# Altium integrated library Maxim Digital Potentiometers.IntLib: 1045 symbols (part 40 of 42)
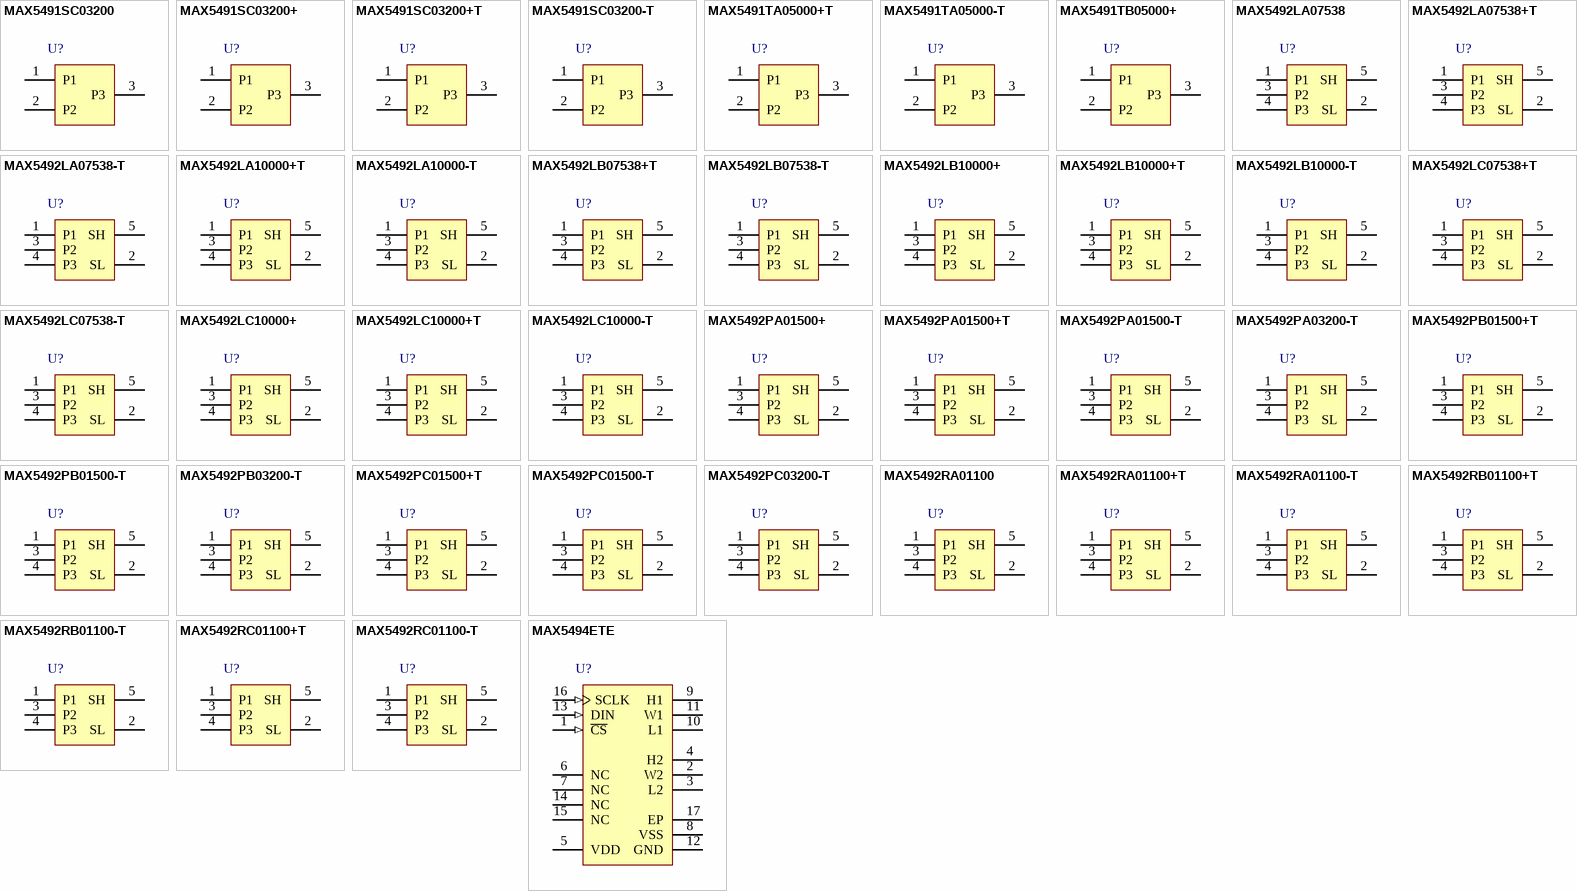
[diagram p68: symbols MAX5491SC03200 to MAX5494ETE]

## MAX5492PB01500-T
designator U?
10k 2 kV ESD Precision-Matched Resistor-Divider, -55 to 125 degC, 5-pin SOT (U5-1), Tape and Reel; PartNumber: MAX5492PB01500-T; DatasheetVersion: Rev. 0; PackageVersion: Rev. G, 04/2011; PackageReference: U5-1; PackageDescription: 5-Pin Small-Outline Transistor Package (U5-1), Body 2.9 x 1.625 mm, Pitch 0.95 mm; Supplier 1: Mouser; Supplier Part Number 1: N/A; Applications: Precision Voltage Divider; Mounting Technology: Surface Mount; Code_JEDEC: MO178; ComponentLink1Description: Manufacturer URL; ComponentLink1URL: http://www.maximintegrated.com/; ComponentLink2Description: Datasheet; ComponentLink2URL: http://datasheets.maximintegrated.com/en/ds/MAX5492.pdf; ComponentLink3Description: Package Specification; ComponentLink3URL: http://pdfserv.maximintegrated.com/package_dwgs/21-0057.PDF
footprint MAXM-U5-1_N (SOT23, 5-Leads, Body 2.9x1.625mm, Pitch 0.95mm, IPC Medium Density)
footprint MAXM-U5-1_L (SOT23, 5-Leads, Body 2.9x1.625mm, Pitch 0.95mm, IPC High Density)
footprint MAXM-U5-1_M (SOT23, 5-Leads, Body 2.9x1.625mm, Pitch 0.95mm, IPC Low Density)
pins: 1 P1 "R1 Connection Terminal", 2 SL "Sense Connection for Low Side of Resistor String. Leave floating or connect in a Kelvin connection configuration.", 3 P2 "R2 Connection Terminal", 4 P3 "Set-Point Connection Terminal", 5 SH "Sense Connection for High Side of Resistor String. Leave floating or connect in a Kelvin connection configuration."

## MAX5492PB03200-T
designator U?
10k 2 kv ESD Precision-Matched Resistor-Divider, -55 to 125 degC, 5-pin SOT (U5-1), Tape and Reel; PartNumber: MAX5492PB03200-T; DatasheetVersion: Rev. 0; PackageVersion: Rev. G, 04/2011; PackageReference: U5-1; PackageDescription: 5-Pin Small-Outline Transistor Package (U5-1), Body 2.9 x 1.625 mm, Pitch 0.95 mm; Supplier 1: Mouser; Supplier Part Number 1: N/A; Applications: Precision Voltage Divider; Mounting Technology: Surface Mount; Code_JEDEC: MO178; ComponentLink1Description: Manufacturer URL; ComponentLink1URL: http://www.maximintegrated.com/; ComponentLink2Description: Datasheet; ComponentLink2URL: http://datasheets.maximintegrated.com/en/ds/MAX5492.pdf; ComponentLink3Description: Package Specification; ComponentLink3URL: http://pdfserv.maximintegrated.com/package_dwgs/21-0057.PDF
footprint MAXM-U5-1_N (SOT23, 5-Leads, Body 2.9x1.625mm, Pitch 0.95mm, IPC Medium Density)
footprint MAXM-U5-1_L (SOT23, 5-Leads, Body 2.9x1.625mm, Pitch 0.95mm, IPC High Density)
footprint MAXM-U5-1_M (SOT23, 5-Leads, Body 2.9x1.625mm, Pitch 0.95mm, IPC Low Density)
pins: 1 P1 "R1 Connection Terminal", 2 SL "Sense Connection for Low Side of Resistor String. Leave floating or connect in a Kelvin connection configuration.", 3 P2 "R2 Connection Terminal", 4 P3 "Set-Point Connection Terminal", 5 SH "Sense Connection for High Side of Resistor String. Leave floating or connect in a Kelvin connection configuration."

## MAX5492PC01500+T
designator U?
10k 2 kV ESD Precision-Matched Resistor-Divider, -55 to 125 degC, 5-pin SOT (U5+1), Pb-Free, Tape and Reel; PartNumber: MAX5492PC01500+T; DatasheetVersion: Rev. 0; PackageVersion: Rev. G, 04/2011; PackageReference: U5+1; PackageDescription: 5-Pin Small-Outline Transistor Package (U5+1), Body 2.90 x 1.625 mm, Pitch 0.95 mm; Supplier 1: Digi-Key; Supplier Part Number 1: MAX5492PC01500+T-ND; Supplier 2: Mouser; Supplier Part Number 2: 700-MAX5492PC01500T; Applications: Precision Voltage Divider; Mounting Technology: Surface Mount; Code_JEDEC: MO178; ComponentLink1Description: Manufacturer URL; ComponentLink1URL: http://www.maximintegrated.com/; ComponentLink2Description: Datasheet; ComponentLink2URL: http://datasheets.maximintegrated.com/en/ds/MAX5492.pdf; ComponentLink3Description: Package Specification; ComponentLink3URL: http://pdfserv.maximintegrated.com/package_dwgs/21-0057.PDF
footprint MAXM-U5+1_N (SOT23, 5-Leads, Body 2.9x1.625mm, Pitch 0.95mm, IPC Medium Density)
footprint MAXM-U5+1_L (SOT23, 5-Leads, Body 2.9x1.625mm, Pitch 0.95mm, IPC High Density)
footprint MAXM-U5+1_M (SOT23, 5-Leads, Body 2.9x1.625mm, Pitch 0.95mm, IPC Low Density)
pins: 1 P1 "R1 Connection Terminal", 2 SL "Sense Connection for Low Side of Resistor String. Leave floating or connect in a Kelvin connection configuration.", 3 P2 "R2 Connection Terminal", 4 P3 "Set-Point Connection Terminal", 5 SH "Sense Connection for High Side of Resistor String. Leave floating or connect in a Kelvin connection configuration."

## MAX5492PC01500-T
designator U?
10k 2 kV ESD Precision-Matched Resistor-Divider, -55 to 125 degC, 5-pin SOT (U5-1), Tape and Reel; PartNumber: MAX5492PC01500-T; DatasheetVersion: Rev. 0; PackageVersion: Rev. G, 04/2011; PackageReference: U5-1; PackageDescription: 5-Pin Small-Outline Transistor Package (U5-1), Body 2.9 x 1.625 mm, Pitch 0.95 mm; Supplier 1: Mouser; Supplier Part Number 1: N/A; Applications: Precision Voltage Divider; Mounting Technology: Surface Mount; Code_JEDEC: MO178; ComponentLink1Description: Manufacturer URL; ComponentLink1URL: http://www.maximintegrated.com/; ComponentLink2Description: Datasheet; ComponentLink2URL: http://datasheets.maximintegrated.com/en/ds/MAX5492.pdf; ComponentLink3Description: Package Specification; ComponentLink3URL: http://pdfserv.maximintegrated.com/package_dwgs/21-0057.PDF
footprint MAXM-U5-1_N (SOT23, 5-Leads, Body 2.9x1.625mm, Pitch 0.95mm, IPC Medium Density)
footprint MAXM-U5-1_L (SOT23, 5-Leads, Body 2.9x1.625mm, Pitch 0.95mm, IPC High Density)
footprint MAXM-U5-1_M (SOT23, 5-Leads, Body 2.9x1.625mm, Pitch 0.95mm, IPC Low Density)
pins: 1 P1 "R1 Connection Terminal", 2 SL "Sense Connection for Low Side of Resistor String. Leave floating or connect in a Kelvin connection configuration.", 3 P2 "R2 Connection Terminal", 4 P3 "Set-Point Connection Terminal", 5 SH "Sense Connection for High Side of Resistor String. Leave floating or connect in a Kelvin connection configuration."

## MAX5492PC03200-T
designator U?
10k 2 kV ESD Precision-Matched Resistor-Divider, -55 to 125 degC, 5-pin SOT (U5-1), Tape and Reel; PartNumber: MAX5492PC03200-T; DatasheetVersion: Rev. 0; PackageVersion: Rev. G, 04/2011; PackageReference: U5-1; PackageDescription: 5-Pin Small-Outline Transistor Package (U5-1), Body 2.9 x 1.625 mm, Pitch 0.95 mm; Supplier 1: Mouser; Supplier Part Number 1: N/A; Applications: Precision Voltage Divider; Mounting Technology: Surface Mount; Code_JEDEC: MO178; ComponentLink1Description: Manufacturer URL; ComponentLink1URL: http://www.maximintegrated.com/; ComponentLink2Description: Datasheet; ComponentLink2URL: http://datasheets.maximintegrated.com/en/ds/MAX5492.pdf; ComponentLink3Description: Package Specification; ComponentLink3URL: http://pdfserv.maximintegrated.com/package_dwgs/21-0057.PDF
footprint MAXM-U5-1_N (SOT23, 5-Leads, Body 2.9x1.625mm, Pitch 0.95mm, IPC Medium Density)
footprint MAXM-U5-1_L (SOT23, 5-Leads, Body 2.9x1.625mm, Pitch 0.95mm, IPC High Density)
footprint MAXM-U5-1_M (SOT23, 5-Leads, Body 2.9x1.625mm, Pitch 0.95mm, IPC Low Density)
pins: 1 P1 "R1 Connection Terminal", 2 SL "Sense Connection for Low Side of Resistor String. Leave floating or connect in a Kelvin connection configuration.", 3 P2 "R2 Connection Terminal", 4 P3 "Set-Point Connection Terminal", 5 SH "Sense Connection for High Side of Resistor String. Leave floating or connect in a Kelvin connection configuration."

## MAX5492RA01100
designator U?
10k 2 kV ESD Precision-Matched Resistor-Divider, -55 to 125 degC, 5-pin SOT (U5-1); PartNumber: MAX5492RA01100; DatasheetVersion: Rev. 0; PackageVersion: Rev. G, 04/2011; PackageReference: U5-1; PackageDescription: 5-Pin Small-Outline Transistor Package (U5-1), Body 2.9 x 1.625 mm, Pitch 0.95 mm; Supplier 1: Mouser; Supplier Part Number 1: N/A; Applications: Precision Voltage Divider; Mounting Technology: Surface Mount; Code_JEDEC: MO178; ComponentLink1Description: Manufacturer URL; ComponentLink1URL: http://www.maximintegrated.com/; ComponentLink2Description: Datasheet; ComponentLink2URL: http://datasheets.maximintegrated.com/en/ds/MAX5492.pdf; ComponentLink3Description: Package Specification; ComponentLink3URL: http://pdfserv.maximintegrated.com/package_dwgs/21-0057.PDF
footprint MAXM-U5-1_N (SOT23, 5-Leads, Body 2.9x1.625mm, Pitch 0.95mm, IPC Medium Density)
footprint MAXM-U5-1_L (SOT23, 5-Leads, Body 2.9x1.625mm, Pitch 0.95mm, IPC High Density)
footprint MAXM-U5-1_M (SOT23, 5-Leads, Body 2.9x1.625mm, Pitch 0.95mm, IPC Low Density)
pins: 1 P1 "R1 Connection Terminal", 2 SL "Sense Connection for Low Side of Resistor String. Leave floating or connect in a Kelvin connection configuration.", 3 P2 "R2 Connection Terminal", 4 P3 "Set-Point Connection Terminal", 5 SH "Sense Connection for High Side of Resistor String. Leave floating or connect in a Kelvin connection configuration."

## MAX5492RA01100+T
designator U?
10k 2 kV ESD Precision-Matched Resistor-Divider, -55 to 125 degC, 5-pin SOT (U5+1), Pb-Free, Tape and Reel; PartNumber: MAX5492RA01100+T; DatasheetVersion: Rev. 0; PackageVersion: Rev. G, 04/2011; PackageReference: U5+1; PackageDescription: 5-Pin Small-Outline Transistor Package (U5+1), Body 2.90 x 1.625 mm, Pitch 0.95 mm; Supplier 1: Digi-Key; Supplier Part Number 1: MAX5492RA01100+T-ND; Supplier 2: Mouser; Supplier Part Number 2: 700-MAX5492RA01100T; Applications: Precision Voltage Divider; Mounting Technology: Surface Mount; Code_JEDEC: MO178; ComponentLink1Description: Manufacturer URL; ComponentLink1URL: http://www.maximintegrated.com/; ComponentLink2Description: Datasheet; ComponentLink2URL: http://datasheets.maximintegrated.com/en/ds/MAX5492.pdf; ComponentLink3Description: Package Specification; ComponentLink3URL: http://pdfserv.maximintegrated.com/package_dwgs/21-0057.PDF
footprint MAXM-U5+1_N (SOT23, 5-Leads, Body 2.9x1.625mm, Pitch 0.95mm, IPC Medium Density)
footprint MAXM-U5+1_L (SOT23, 5-Leads, Body 2.9x1.625mm, Pitch 0.95mm, IPC High Density)
footprint MAXM-U5+1_M (SOT23, 5-Leads, Body 2.9x1.625mm, Pitch 0.95mm, IPC Low Density)
pins: 1 P1 "R1 Connection Terminal", 2 SL "Sense Connection for Low Side of Resistor String. Leave floating or connect in a Kelvin connection configuration.", 3 P2 "R2 Connection Terminal", 4 P3 "Set-Point Connection Terminal", 5 SH "Sense Connection for High Side of Resistor String. Leave floating or connect in a Kelvin connection configuration."

## MAX5492RA01100-T
designator U?
10k 2 kV ESD Precision-Matched Resistor-Divider, -55 to 125 degC, 5-pin SOT (U5-1), Tape and Reel; PartNumber: MAX5492RA01100-T; DatasheetVersion: Rev. 0; PackageVersion: Rev. G, 04/2011; PackageReference: U5-1; PackageDescription: 5-Pin Small-Outline Transistor Package (U5-1), Body 2.9 x 1.625 mm, Pitch 0.95 mm; Supplier 1: Mouser; Supplier Part Number 1: N/A; Applications: Precision Voltage Divider; Mounting Technology: Surface Mount; Code_JEDEC: MO178; ComponentLink1Description: Manufacturer URL; ComponentLink1URL: http://www.maximintegrated.com/; ComponentLink2Description: Datasheet; ComponentLink2URL: http://datasheets.maximintegrated.com/en/ds/MAX5492.pdf; ComponentLink3Description: Package Specification; ComponentLink3URL: http://pdfserv.maximintegrated.com/package_dwgs/21-0057.PDF
footprint MAXM-U5-1_N (SOT23, 5-Leads, Body 2.9x1.625mm, Pitch 0.95mm, IPC Medium Density)
footprint MAXM-U5-1_L (SOT23, 5-Leads, Body 2.9x1.625mm, Pitch 0.95mm, IPC High Density)
footprint MAXM-U5-1_M (SOT23, 5-Leads, Body 2.9x1.625mm, Pitch 0.95mm, IPC Low Density)
pins: 1 P1 "R1 Connection Terminal", 2 SL "Sense Connection for Low Side of Resistor String. Leave floating or connect in a Kelvin connection configuration.", 3 P2 "R2 Connection Terminal", 4 P3 "Set-Point Connection Terminal", 5 SH "Sense Connection for High Side of Resistor String. Leave floating or connect in a Kelvin connection configuration."

## MAX5492RB01100+T
designator U?
10k 2 kV ESD Precision-Matched Resistor-Divider, -55 to 125 degC, 5-pin SOT (U5+1), Pb-Free, Tape and Reel; PartNumber: MAX5492RB01100+T; DatasheetVersion: Rev. 0; PackageVersion: Rev. G, 04/2011; PackageReference: U5+1; PackageDescription: 5-Pin Small-Outline Transistor Package (U5+1), Body 2.90 x 1.625 mm, Pitch 0.95 mm; Supplier 1: Digi-Key; Supplier Part Number 1: MAX5492RB01100+T-ND; Supplier 2: Mouser; Supplier Part Number 2: 700-MAX5492RB01100T; Applications: Precision Voltage Divider; Mounting Technology: Surface Mount; Code_JEDEC: MO178; ComponentLink1Description: Manufacturer URL; ComponentLink1URL: http://www.maximintegrated.com/; ComponentLink2Description: Datasheet; ComponentLink2URL: http://datasheets.maximintegrated.com/en/ds/MAX5492.pdf; ComponentLink3Description: Package Specification; ComponentLink3URL: http://pdfserv.maximintegrated.com/package_dwgs/21-0057.PDF
footprint MAXM-U5+1_N (SOT23, 5-Leads, Body 2.9x1.625mm, Pitch 0.95mm, IPC Medium Density)
footprint MAXM-U5+1_L (SOT23, 5-Leads, Body 2.9x1.625mm, Pitch 0.95mm, IPC High Density)
footprint MAXM-U5+1_M (SOT23, 5-Leads, Body 2.9x1.625mm, Pitch 0.95mm, IPC Low Density)
pins: 1 P1 "R1 Connection Terminal", 2 SL "Sense Connection for Low Side of Resistor String. Leave floating or connect in a Kelvin connection configuration.", 3 P2 "R2 Connection Terminal", 4 P3 "Set-Point Connection Terminal", 5 SH "Sense Connection for High Side of Resistor String. Leave floating or connect in a Kelvin connection configuration."

## MAX5492RB01100-T
designator U?
10k 2 kv ESD Precision-Matched Resistor-Divider, -55 to 125 degC, 5-pin SOT (U5-1), Tape and Reel; PartNumber: MAX5492RB01100-T; DatasheetVersion: Rev. 0; PackageVersion: Rev. G, 04/2011; PackageReference: U5-1; PackageDescription: 5-Pin Small-Outline Transistor Package (U5-1), Body 2.9 x 1.625 mm, Pitch 0.95 mm; Supplier 1: Mouser; Supplier Part Number 1: N/A; Applications: Precision Voltage Divider; Mounting Technology: Surface Mount; Code_JEDEC: MO178; ComponentLink1Description: Manufacturer URL; ComponentLink1URL: http://www.maximintegrated.com/; ComponentLink2Description: Datasheet; ComponentLink2URL: http://datasheets.maximintegrated.com/en/ds/MAX5492.pdf; ComponentLink3Description: Package Specification; ComponentLink3URL: http://pdfserv.maximintegrated.com/package_dwgs/21-0057.PDF
footprint MAXM-U5-1_N (SOT23, 5-Leads, Body 2.9x1.625mm, Pitch 0.95mm, IPC Medium Density)
footprint MAXM-U5-1_L (SOT23, 5-Leads, Body 2.9x1.625mm, Pitch 0.95mm, IPC High Density)
footprint MAXM-U5-1_M (SOT23, 5-Leads, Body 2.9x1.625mm, Pitch 0.95mm, IPC Low Density)
pins: 1 P1 "R1 Connection Terminal", 2 SL "Sense Connection for Low Side of Resistor String. Leave floating or connect in a Kelvin connection configuration.", 3 P2 "R2 Connection Terminal", 4 P3 "Set-Point Connection Terminal", 5 SH "Sense Connection for High Side of Resistor String. Leave floating or connect in a Kelvin connection configuration."

## MAX5492RC01100+T
designator U?
10k 2 kV ESD Precision-Matched Resistor-Divider, -55 to 125 degC, 5-pin SOT (U5+1), Pb-Free, Tape and Reel; PartNumber: MAX5492RC01100+T; DatasheetVersion: Rev. 0; PackageVersion: Rev. G, 04/2011; PackageReference: U5+1; PackageDescription: 5-Pin Small-Outline Transistor Package (U5+1), Body 2.90 x 1.625 mm, Pitch 0.95 mm; Supplier 1: Digi-Key; Supplier Part Number 1: MAX5492RC01100+T-ND; Supplier 2: Mouser; Supplier Part Number 2: 700-MAX5492RC01100T; Applications: Precision Voltage Divider; Mounting Technology: Surface Mount; Code_JEDEC: MO178; ComponentLink1Description: Manufacturer URL; ComponentLink1URL: http://www.maximintegrated.com/; ComponentLink2Description: Datasheet; ComponentLink2URL: http://datasheets.maximintegrated.com/en/ds/MAX5492.pdf; ComponentLink3Description: Package Specification; ComponentLink3URL: http://pdfserv.maximintegrated.com/package_dwgs/21-0057.PDF
footprint MAXM-U5+1_N (SOT23, 5-Leads, Body 2.9x1.625mm, Pitch 0.95mm, IPC Medium Density)
footprint MAXM-U5+1_L (SOT23, 5-Leads, Body 2.9x1.625mm, Pitch 0.95mm, IPC High Density)
footprint MAXM-U5+1_M (SOT23, 5-Leads, Body 2.9x1.625mm, Pitch 0.95mm, IPC Low Density)
pins: 1 P1 "R1 Connection Terminal", 2 SL "Sense Connection for Low Side of Resistor String. Leave floating or connect in a Kelvin connection configuration.", 3 P2 "R2 Connection Terminal", 4 P3 "Set-Point Connection Terminal", 5 SH "Sense Connection for High Side of Resistor String. Leave floating or connect in a Kelvin connection configuration."

## MAX5492RC01100-T
designator U?
10k 2 kV ESD Precision-Matched Resistor-Divider, -55 to 125 degC, 5-pin SOT (U5-1), Tape and Reel; PartNumber: MAX5492RC01100-T; DatasheetVersion: Rev. 0; PackageVersion: Rev. G, 04/2011; PackageReference: U5-1; PackageDescription: 5-Pin Small-Outline Transistor Package (U5-1), Body 2.9 x 1.625 mm, Pitch 0.95 mm; Supplier 1: Mouser; Supplier Part Number 1: N/A; Applications: Precision Voltage Divider; Mounting Technology: Surface Mount; Code_JEDEC: MO178; ComponentLink1Description: Manufacturer URL; ComponentLink1URL: http://www.maximintegrated.com/; ComponentLink2Description: Datasheet; ComponentLink2URL: http://datasheets.maximintegrated.com/en/ds/MAX5492.pdf; ComponentLink3Description: Package Specification; ComponentLink3URL: http://pdfserv.maximintegrated.com/package_dwgs/21-0057.PDF
footprint MAXM-U5-1_N (SOT23, 5-Leads, Body 2.9x1.625mm, Pitch 0.95mm, IPC Medium Density)
footprint MAXM-U5-1_L (SOT23, 5-Leads, Body 2.9x1.625mm, Pitch 0.95mm, IPC High Density)
footprint MAXM-U5-1_M (SOT23, 5-Leads, Body 2.9x1.625mm, Pitch 0.95mm, IPC Low Density)
pins: 1 P1 "R1 Connection Terminal", 2 SL "Sense Connection for Low Side of Resistor String. Leave floating or connect in a Kelvin connection configuration.", 3 P2 "R2 Connection Terminal", 4 P3 "Set-Point Connection Terminal", 5 SH "Sense Connection for High Side of Resistor String. Leave floating or connect in a Kelvin connection configuration."

## MAX5494ETE
designator U?
Dual 10k Digital Potentiometer (Voltage Divider) with 3-Wire Serial SPI Control Interface, Non-Volatile, Linear Taper, 1024 Steps, -40 to 85 degC, TQFN (T1655-3); PartNumber: MAX5494ETE; DatasheetVersion: Rev. 2; PackageVersion: Rev. Q, 09/2011; PackageReference: T1655-3; PackageDescription: 16-Pin Thin Quad Flatpack, No Leads, Body 5 x 5 mm, Pitch 0.8 mm; Supplier 1: Mouser; Supplier Part Number 1: N/A; Applications: Fiber Communications, Power Supply Cal.; Control Interface: 3-Wire Serial SPI; Features: EEPROM Wiper Memory; Mounting Technology: Surface Mount; Code_JEDEC: MO220; ComponentLink1Description: Manufacturer URL; ComponentLink1URL: http://www.maximintegrated.com/; ComponentLink2Description: Datasheet; ComponentLink2URL: http://datasheets.maximintegrated.com/en/ds/MAX5494-MAX5499.pdf; ComponentLink3Description: Package Specification; ComponentLink3URL: http://pdfserv.maximintegrated.com/package_dwgs/21-0140.PDF
footprint MAXM-T1655-3_N (QFN, 16-Leads, Body 5x5mm, Pitch 0.8mm, Thermal Pad 3.1x3.1mm, IPC Medium Density)
footprint MAXM-T1655-3_L (QFN, 16-Leads, Body 5x5mm, Pitch 0.8mm, Thermal Pad 3.1x3.1mm, IPC High Density)
footprint MAXM-T1655-3_M (QFN, 16-Leads, Body 5x5mm, Pitch 0.8mm, Thermal Pad 3.1x3.1mm, IPC Low Density)
pins: 1 ~{CS} (in) "Active-Low Chip-Select Input. Drive C\S\ low to enable the serial interface. Drive C\S\ high to disable the serial interface and put the device in standby mode.", 2 W2 "Wiper Terminal 2", 3 L2 "Low Terminal 2", 4 H2 "High Terminal 2", 5 VDD (power) "Positive Power-Supply Input. 2.7V =< VDD =< 5.25V. Bypass with a 0.1uF capacitor from VDD to GND as close to the device as possible", 6 NC "No Connection. Not internally connected.", 7 NC "No Connection. Not internally connected.", 8 VSS (power) "Negative Power-Supply Input. Single-supply operation: VSS = GND = 0. Dual-supply operation: -2.5V =< VSS =< -0.2V (VSS can vary as long as (VDD - VSS) =< 5.25V). Bypass with a 0.1uF capacitor from VSS to GND as close to the (See Datasheet)", 9 H1 "High Terminal 1", 10 L1 "Low Terminal 1", 11 W1 "Wiper Terminal 1", 12 GND (power) "Ground", 13 DIN (in) "Serial-Data Input. The data at DIN synchronously loads into the serial shift register on each SCLK rising edge.", 14 NC "No Connection. Not internally connected.", 15 NC "No Connection. Not internally connected.", 16 SCLK (in) "Serial-Clock Input . SCLK clocks in the data when C\S\ is low.", 17 EP (power) "Exposed Pad. Externally connect EP to VSS to provide a low thermal resistance path from the IC junction to the PC board or leave unconnected."

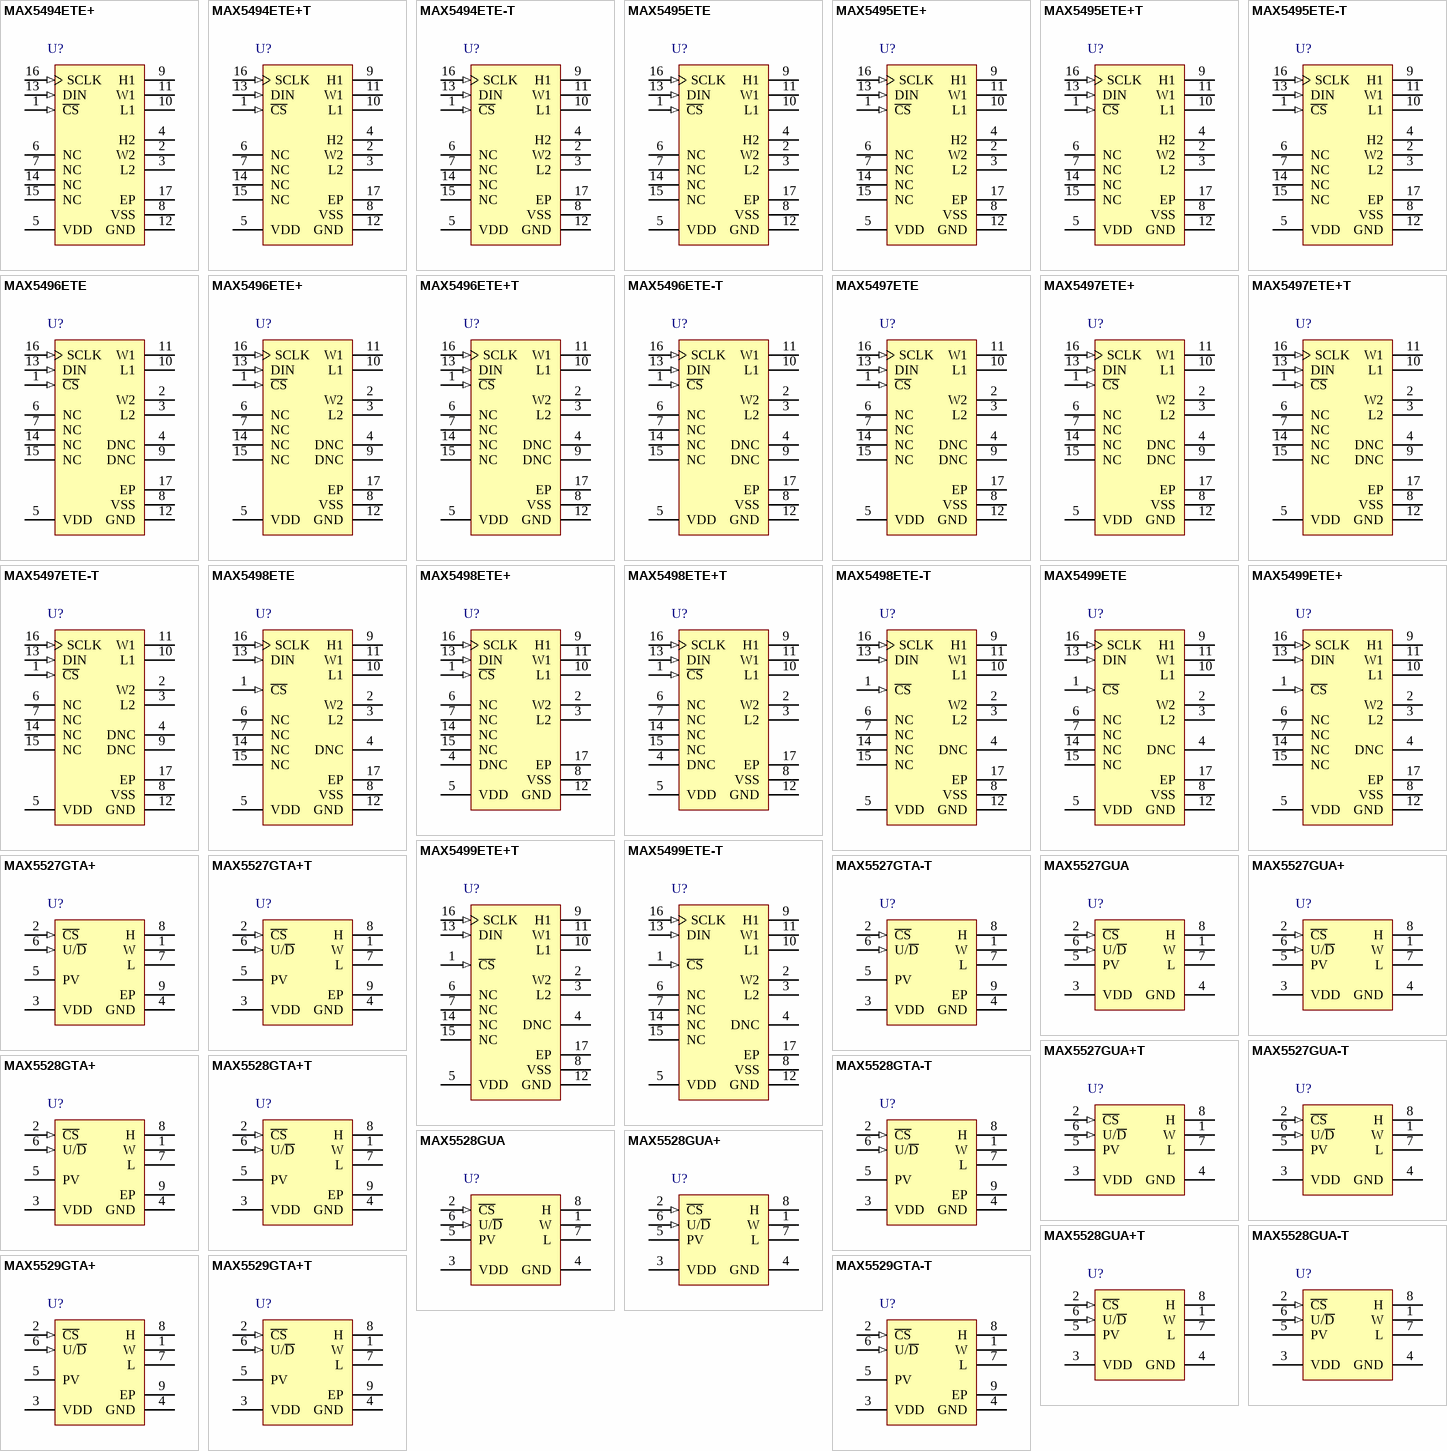
[diagram p28: symbols MAX5494ETE+ to MAX5529GTA-T]

## MAX5494ETE+
designator U?
Dual 10k Digital Potentiometer (Voltage Divider) with 3-Wire Serial SPI Control Interface, Non-Volatile, Linear Taper, 1024 Steps, -40 to 85 degC, TQFN (T1655+3), Pb-Free; PartNumber: MAX5494ETE+; DatasheetVersion: Rev. 2; PackageVersion: Rev. Q, 09/2011; PackageReference: T1655+3; PackageDescription: 16-Pin Thin Quad Flatpack, No Leads, Body 5 x 5 mm, Pitch 0.8 mm; Supplier 1: Digi-Key; Supplier Part Number 1: MAX5494ETE+-ND; Supplier 2: Newark; Supplier Part Number 2: 61K0535; Supplier 3: Mouser; Supplier Part Number 3: 700-MAX5494ETE; Applications: Fiber Communications, Power Supply Cal.; Control Interface: 3-Wire Serial SPI; Features: EEPROM Wiper Memory; Mounting Technology: Surface Mount; Code_JEDEC: MO220; ComponentLink1Description: Manufacturer URL; ComponentLink1URL: http://www.maximintegrated.com/; ComponentLink2Description: Datasheet; ComponentLink2URL: http://datasheets.maximintegrated.com/en/ds/MAX5494-MAX5499.pdf; ComponentLink3Description: Package Specification; ComponentLink3URL: http://pdfserv.maximintegrated.com/package_dwgs/21-0140.PDF
footprint MAXM-T1655+3_N (QFN, 16-Leads, Body 5x5mm, Pitch 0.8mm, Thermal Pad 3.1x3.1mm, IPC Medium Density)
footprint MAXM-T1655+3_L (QFN, 16-Leads, Body 5x5mm, Pitch 0.8mm, Thermal Pad 3.1x3.1mm, IPC High Density)
footprint MAXM-T1655+3_M (QFN, 16-Leads, Body 5x5mm, Pitch 0.8mm, Thermal Pad 3.1x3.1mm, IPC Low Density)
pins: 1 ~{CS} (in) "Active-Low Chip-Select Input. Drive C\S\ low to enable the serial interface. Drive C\S\ high to disable the serial interface and put the device in standby mode.", 2 W2 "Wiper Terminal 2", 3 L2 "Low Terminal 2", 4 H2 "High Terminal 2", 5 VDD (power) "Positive Power-Supply Input. 2.7V =< VDD =< 5.25V. Bypass with a 0.1uF capacitor from VDD to GND as close to the device as possible", 6 NC "No Connection. Not internally connected.", 7 NC "No Connection. Not internally connected.", 8 VSS (power) "Negative Power-Supply Input. Single-supply operation: VSS = GND = 0. Dual-supply operation: -2.5V =< VSS =< -0.2V (VSS can vary as long as (VDD - VSS) =< 5.25V). Bypass with a 0.1uF capacitor from VSS to GND as close to the (See Datasheet)", 9 H1 "High Terminal 1", 10 L1 "Low Terminal 1", 11 W1 "Wiper Terminal 1", 12 GND (power) "Ground", 13 DIN (in) "Serial-Data Input. The data at DIN synchronously loads into the serial shift register on each SCLK rising edge.", 14 NC "No Connection. Not internally connected.", 15 NC "No Connection. Not internally connected.", 16 SCLK (in) "Serial-Clock Input . SCLK clocks in the data when C\S\ is low.", 17 EP (power) "Exposed Pad. Externally connect EP to VSS to provide a low thermal resistance path from the IC junction to the PC board or leave unconnected."

## MAX5494ETE+T
designator U?
Dual 10k Linear-Taper Digital Potentiometer (Voltage Divider) with 3-Wire Serial SPI Control Interface, Non-Volatile, Linear Taper, 1024 Steps, -40 to 85 degC, TQFN (T1655+3), Pb-Free, Tape and Reel; PartNumber: MAX5494ETE+T; DatasheetVersion: Rev. 2; PackageVersion: Rev. Q, 09/2011; PackageReference: T1655+3; PackageDescription: 16-Pin Thin Quad Flatpack, No Leads, Body 5 x 5 mm, Pitch 0.8 mm; Supplier 1: Digi-Key; Supplier Part Number 1: MAX5494ETE+T-ND; Supplier 2: Mouser; Supplier Part Number 2: 700-MAX5494ETET; Applications: Fiber Communications, Power Supply Cal.; Control Interface: 3-Wire Serial SPI; Features: EEPROM Wiper Memory; Mounting Technology: Surface Mount; Code_JEDEC: MO220; ComponentLink1Description: Manufacturer URL; ComponentLink1URL: http://www.maximintegrated.com/; ComponentLink2Description: Datasheet; ComponentLink2URL: http://datasheets.maximintegrated.com/en/ds/MAX5494-MAX5499.pdf; ComponentLink3Description: Package Specification; ComponentLink3URL: http://pdfserv.maximintegrated.com/package_dwgs/21-0140.PDF
footprint MAXM-T1655+3_N (QFN, 16-Leads, Body 5x5mm, Pitch 0.8mm, Thermal Pad 3.1x3.1mm, IPC Medium Density)
footprint MAXM-T1655+3_L (QFN, 16-Leads, Body 5x5mm, Pitch 0.8mm, Thermal Pad 3.1x3.1mm, IPC High Density)
footprint MAXM-T1655+3_M (QFN, 16-Leads, Body 5x5mm, Pitch 0.8mm, Thermal Pad 3.1x3.1mm, IPC Low Density)
pins: 1 ~{CS} (in) "Active-Low Chip-Select Input. Drive C\S\ low to enable the serial interface. Drive C\S\ high to disable the serial interface and put the device in standby mode.", 2 W2 "Wiper Terminal 2", 3 L2 "Low Terminal 2", 4 H2 "High Terminal 2", 5 VDD (power) "Positive Power-Supply Input. 2.7V =< VDD =< 5.25V. Bypass with a 0.1uF capacitor from VDD to GND as close to the device as possible", 6 NC "No Connection. Not internally connected.", 7 NC "No Connection. Not internally connected.", 8 VSS (power) "Negative Power-Supply Input. Single-supply operation: VSS = GND = 0. Dual-supply operation: -2.5V =< VSS =< -0.2V (VSS can vary as long as (VDD - VSS) =< 5.25V). Bypass with a 0.1uF capacitor from VSS to GND as close to the (See Datasheet)", 9 H1 "High Terminal 1", 10 L1 "Low Terminal 1", 11 W1 "Wiper Terminal 1", 12 GND (power) "Ground", 13 DIN (in) "Serial-Data Input. The data at DIN synchronously loads into the serial shift register on each SCLK rising edge.", 14 NC "No Connection. Not internally connected.", 15 NC "No Connection. Not internally connected.", 16 SCLK (in) "Serial-Clock Input . SCLK clocks in the data when C\S\ is low.", 17 EP (power) "Exposed Pad. Externally connect EP to VSS to provide a low thermal resistance path from the IC junction to the PC board or leave unconnected."

## MAX5494ETE-T
designator U?
Dual 10k Digital Potentiometer (Voltage Divider) with 3-Wire Serial SPI Control Interface, Non-Volatile, Linear Taper, 1024 Steps, -40 to 85 degC, 16-pin TQFN (T1655-3), Tape and Reel; PartNumber: MAX5494ETE-T; DatasheetVersion: Rev. 2; PackageVersion: Rev. Q, 09/2011; PackageReference: T1655-3; PackageDescription: 16-Pin Thin Quad Flatpack, No Leads, Body 5 x 5 mm, Pitch 0.8 mm; Supplier 1: Mouser; Supplier Part Number 1: N/A; Applications: Fiber Communications, Power Supply Cal.; Control Interface: 3-Wire Serial SPI; Features: EEPROM Wiper Memory; Mounting Technology: Surface Mount; Code_JEDEC: MO220; ComponentLink1Description: Manufacturer URL; ComponentLink1URL: http://www.maximintegrated.com/; ComponentLink2Description: Datasheet; ComponentLink2URL: http://datasheets.maximintegrated.com/en/ds/MAX5494-MAX5499.pdf; ComponentLink3Description: Package Specification; ComponentLink3URL: http://pdfserv.maximintegrated.com/package_dwgs/21-0140.PDF
footprint MAXM-T1655-3_N (QFN, 16-Leads, Body 5x5mm, Pitch 0.8mm, Thermal Pad 3.1x3.1mm, IPC Medium Density)
footprint MAXM-T1655-3_L (QFN, 16-Leads, Body 5x5mm, Pitch 0.8mm, Thermal Pad 3.1x3.1mm, IPC High Density)
footprint MAXM-T1655-3_M (QFN, 16-Leads, Body 5x5mm, Pitch 0.8mm, Thermal Pad 3.1x3.1mm, IPC Low Density)
pins: 1 ~{CS} (in) "Active-Low Chip-Select Input. Drive C\S\ low to enable the serial interface. Drive C\S\ high to disable the serial interface and put the device in standby mode.", 2 W2 "Wiper Terminal 2", 3 L2 "Low Terminal 2", 4 H2 "High Terminal 2", 5 VDD (power) "Positive Power-Supply Input. 2.7V =< VDD =< 5.25V. Bypass with a 0.1uF capacitor from VDD to GND as close to the device as possible", 6 NC "No Connection. Not internally connected.", 7 NC "No Connection. Not internally connected.", 8 VSS (power) "Negative Power-Supply Input. Single-supply operation: VSS = GND = 0. Dual-supply operation: -2.5V =< VSS =< -0.2V (VSS can vary as long as (VDD - VSS) =< 5.25V). Bypass with a 0.1uF capacitor from VSS to GND as close to the (See Datasheet)", 9 H1 "High Terminal 1", 10 L1 "Low Terminal 1", 11 W1 "Wiper Terminal 1", 12 GND (power) "Ground", 13 DIN (in) "Serial-Data Input. The data at DIN synchronously loads into the serial shift register on each SCLK rising edge.", 14 NC "No Connection. Not internally connected.", 15 NC "No Connection. Not internally connected.", 16 SCLK (in) "Serial-Clock Input . SCLK clocks in the data when C\S\ is low.", 17 EP (power) "Exposed Pad. Externally connect EP to VSS to provide a low thermal resistance path from the IC junction to the PC board or leave unconnected."

## MAX5495ETE
designator U?
Dual 50k Digital Potentiometer (Voltage Divider) with 3-Wire Serial SPI Control Interface, Non-Volatile, Linear Taper, 1024 Steps, -40 to 85 degC, 16-pin TQFN (T1655-3); PartNumber: MAX5495ETE; DatasheetVersion: Rev. 2; PackageVersion: Rev. Q, 09/2011; PackageReference: T1655-3; PackageDescription: 16-Pin Thin Quad Flatpack, No Leads, Body 5 x 5 mm, Pitch 0.8 mm; Supplier 1: Mouser; Supplier Part Number 1: N/A; Applications: Fiber Communications, Power Supply Cal.; Control Interface: 3-Wire Serial SPI; Features: EEPROM Wiper Memory; Mounting Technology: Surface Mount; Code_JEDEC: MO220; ComponentLink1Description: Manufacturer URL; ComponentLink1URL: http://www.maximintegrated.com/; ComponentLink2Description: Datasheet; ComponentLink2URL: http://datasheets.maximintegrated.com/en/ds/MAX5494-MAX5499.pdf; ComponentLink3Description: Package Specification; ComponentLink3URL: http://pdfserv.maximintegrated.com/package_dwgs/21-0140.PDF
footprint MAXM-T1655-3_N (QFN, 16-Leads, Body 5x5mm, Pitch 0.8mm, Thermal Pad 3.1x3.1mm, IPC Medium Density)
footprint MAXM-T1655-3_L (QFN, 16-Leads, Body 5x5mm, Pitch 0.8mm, Thermal Pad 3.1x3.1mm, IPC High Density)
footprint MAXM-T1655-3_M (QFN, 16-Leads, Body 5x5mm, Pitch 0.8mm, Thermal Pad 3.1x3.1mm, IPC Low Density)
pins: 1 ~{CS} (in) "Active-Low Chip-Select Input. Drive C\S\ low to enable the serial interface. Drive C\S\ high to disable the serial interface and put the device in standby mode.", 2 W2 "Wiper Terminal 2", 3 L2 "Low Terminal 2", 4 H2 "High Terminal 2", 5 VDD (power) "Positive Power-Supply Input. 2.7V =< VDD =< 5.25V. Bypass with a 0.1uF capacitor from VDD to GND as close to the device as possible", 6 NC "No Connection. Not internally connected.", 7 NC "No Connection. Not internally connected.", 8 VSS (power) "Negative Power-Supply Input. Single-supply operation: VSS = GND = 0. Dual-supply operation: -2.5V =< VSS =< -0.2V (VSS can vary as long as (VDD - VSS) =< 5.25V). Bypass with a 0.1uF capacitor from VSS to GND as close to the (See Datasheet)", 9 H1 "High Terminal 1", 10 L1 "Low Terminal 1", 11 W1 "Wiper Terminal 1", 12 GND (power) "Ground", 13 DIN (in) "Serial-Data Input. The data at DIN synchronously loads into the serial shift register on each SCLK rising edge.", 14 NC "No Connection. Not internally connected.", 15 NC "No Connection. Not internally connected.", 16 SCLK (in) "Serial-Clock Input . SCLK clocks in the data when C\S\ is low.", 17 EP (power) "Exposed Pad. Externally connect EP to VSS to provide a low thermal resistance path from the IC junction to the PC board or leave unconnected."

## MAX5495ETE+
designator U?
Dual 50k Digital Potentiometer (Voltage Divider) with 3-Wire Serial SPI Control Interface, Non-Volatile, Linear Taper, 1024 Steps, -40 to 85 degC, 16-pin TQFN (T1655+3), Pb-Free; PartNumber: MAX5495ETE+; DatasheetVersion: Rev. 2; PackageVersion: Rev. Q, 09/2011; PackageReference: T1655+3; PackageDescription: 16-Pin Thin Quad Flatpack, No Leads, Body 5 x 5 mm, Pitch 0.8 mm; Supplier 1: Digi-Key; Supplier Part Number 1: MAX5495ETE+-ND; Supplier 2: Mouser; Supplier Part Number 2: 700-MAX5495ETE; Applications: Fiber Communications, Power Supply Cal.; Control Interface: 3-Wire Serial SPI; Features: EEPROM Wiper Memory; Mounting Technology: Surface Mount; Code_JEDEC: MO220; ComponentLink1Description: Manufacturer URL; ComponentLink1URL: http://www.maximintegrated.com/; ComponentLink2Description: Datasheet; ComponentLink2URL: http://datasheets.maximintegrated.com/en/ds/MAX5494-MAX5499.pdf; ComponentLink3Description: Package Specification; ComponentLink3URL: http://pdfserv.maximintegrated.com/package_dwgs/21-0140.PDF
footprint MAXM-T1655+3_N (QFN, 16-Leads, Body 5x5mm, Pitch 0.8mm, Thermal Pad 3.1x3.1mm, IPC Medium Density)
footprint MAXM-T1655+3_L (QFN, 16-Leads, Body 5x5mm, Pitch 0.8mm, Thermal Pad 3.1x3.1mm, IPC High Density)
footprint MAXM-T1655+3_M (QFN, 16-Leads, Body 5x5mm, Pitch 0.8mm, Thermal Pad 3.1x3.1mm, IPC Low Density)
pins: 1 ~{CS} (in) "Active-Low Chip-Select Input. Drive C\S\ low to enable the serial interface. Drive C\S\ high to disable the serial interface and put the device in standby mode.", 2 W2 "Wiper Terminal 2", 3 L2 "Low Terminal 2", 4 H2 "High Terminal 2", 5 VDD (power) "Positive Power-Supply Input. 2.7V =< VDD =< 5.25V. Bypass with a 0.1uF capacitor from VDD to GND as close to the device as possible", 6 NC "No Connection. Not internally connected.", 7 NC "No Connection. Not internally connected.", 8 VSS (power) "Negative Power-Supply Input. Single-supply operation: VSS = GND = 0. Dual-supply operation: -2.5V =< VSS =< -0.2V (VSS can vary as long as (VDD - VSS) =< 5.25V). Bypass with a 0.1uF capacitor from VSS to GND as close to the (See Datasheet)", 9 H1 "High Terminal 1", 10 L1 "Low Terminal 1", 11 W1 "Wiper Terminal 1", 12 GND (power) "Ground", 13 DIN (in) "Serial-Data Input. The data at DIN synchronously loads into the serial shift register on each SCLK rising edge.", 14 NC "No Connection. Not internally connected.", 15 NC "No Connection. Not internally connected.", 16 SCLK (in) "Serial-Clock Input . SCLK clocks in the data when C\S\ is low.", 17 EP (power) "Exposed Pad. Externally connect EP to VSS to provide a low thermal resistance path from the IC junction to the PC board or leave unconnected."

## MAX5495ETE+T
designator U?
Dual 50k Digital Potentiometer (Voltage Divider) with 3-Wire Serial SPI Control Interface, Non-Volatile, Linear Taper, 1024 Steps, -40 to 85 degC, 16-pin TQFN (T1655+3), Pb-Free, Tape and Reel; PartNumber: MAX5495ETE+T; DatasheetVersion: Rev. 2; PackageVersion: Rev. Q, 09/2011; PackageReference: T1655+3; PackageDescription: 16-Pin Thin Quad Flatpack, No Leads, Body 5 x 5 mm, Pitch 0.8 mm; Supplier 1: Digi-Key; Supplier Part Number 1: MAX5495ETE+T-ND; Supplier 2: Mouser; Supplier Part Number 2: 700-MAX5495ETET; Applications: Fiber Communications, Power Supply Cal.; Control Interface: 3-Wire Serial SPI; Features: EEPROM Wiper Memory; Mounting Technology: Surface Mount; Code_JEDEC: MO220; ComponentLink1Description: Manufacturer URL; ComponentLink1URL: http://www.maximintegrated.com/; ComponentLink2Description: Datasheet; ComponentLink2URL: http://datasheets.maximintegrated.com/en/ds/MAX5494-MAX5499.pdf; ComponentLink3Description: Package Specification; ComponentLink3URL: http://pdfserv.maximintegrated.com/package_dwgs/21-0140.PDF
footprint MAXM-T1655+3_N (QFN, 16-Leads, Body 5x5mm, Pitch 0.8mm, Thermal Pad 3.1x3.1mm, IPC Medium Density)
footprint MAXM-T1655+3_L (QFN, 16-Leads, Body 5x5mm, Pitch 0.8mm, Thermal Pad 3.1x3.1mm, IPC High Density)
footprint MAXM-T1655+3_M (QFN, 16-Leads, Body 5x5mm, Pitch 0.8mm, Thermal Pad 3.1x3.1mm, IPC Low Density)
pins: 1 ~{CS} (in) "Active-Low Chip-Select Input. Drive C\S\ low to enable the serial interface. Drive C\S\ high to disable the serial interface and put the device in standby mode.", 2 W2 "Wiper Terminal 2", 3 L2 "Low Terminal 2", 4 H2 "High Terminal 2", 5 VDD (power) "Positive Power-Supply Input. 2.7V =< VDD =< 5.25V. Bypass with a 0.1uF capacitor from VDD to GND as close to the device as possible", 6 NC "No Connection. Not internally connected.", 7 NC "No Connection. Not internally connected.", 8 VSS (power) "Negative Power-Supply Input. Single-supply operation: VSS = GND = 0. Dual-supply operation: -2.5V =< VSS =< -0.2V (VSS can vary as long as (VDD - VSS) =< 5.25V). Bypass with a 0.1uF capacitor from VSS to GND as close to the (See Datasheet)", 9 H1 "High Terminal 1", 10 L1 "Low Terminal 1", 11 W1 "Wiper Terminal 1", 12 GND (power) "Ground", 13 DIN (in) "Serial-Data Input. The data at DIN synchronously loads into the serial shift register on each SCLK rising edge.", 14 NC "No Connection. Not internally connected.", 15 NC "No Connection. Not internally connected.", 16 SCLK (in) "Serial-Clock Input . SCLK clocks in the data when C\S\ is low.", 17 EP (power) "Exposed Pad. Externally connect EP to VSS to provide a low thermal resistance path from the IC junction to the PC board or leave unconnected."

## MAX5495ETE-T
designator U?
Dual 50k Digital Potentiometer (Voltage Divider) with 3-Wire Serial SPI Control Interface, Non-Volatile, Linear Taper, 1024 Steps, -40 to 85 degC, 16-pin TQFN (T1655-3), Tape and Reel; PartNumber: MAX5495ETE-T; DatasheetVersion: Rev. 2; PackageVersion: Rev. Q, 09/2011; PackageReference: T1655-3; PackageDescription: 16-Pin Thin Quad Flatpack, No Leads, Body 5 x 5 mm, Pitch 0.8 mm; Supplier 1: Mouser; Supplier Part Number 1: N/A; Applications: Fiber Communications, Power Supply Cal.; Control Interface: 3-Wire Serial SPI; Features: EEPROM Wiper Memory; Mounting Technology: Surface Mount; Code_JEDEC: MO220; ComponentLink1Description: Manufacturer URL; ComponentLink1URL: http://www.maximintegrated.com/; ComponentLink2Description: Datasheet; ComponentLink2URL: http://datasheets.maximintegrated.com/en/ds/MAX5494-MAX5499.pdf; ComponentLink3Description: Package Specification; ComponentLink3URL: http://pdfserv.maximintegrated.com/package_dwgs/21-0140.PDF
footprint MAXM-T1655-3_N (QFN, 16-Leads, Body 5x5mm, Pitch 0.8mm, Thermal Pad 3.1x3.1mm, IPC Medium Density)
footprint MAXM-T1655-3_L (QFN, 16-Leads, Body 5x5mm, Pitch 0.8mm, Thermal Pad 3.1x3.1mm, IPC High Density)
footprint MAXM-T1655-3_M (QFN, 16-Leads, Body 5x5mm, Pitch 0.8mm, Thermal Pad 3.1x3.1mm, IPC Low Density)
pins: 1 ~{CS} (in) "Active-Low Chip-Select Input. Drive C\S\ low to enable the serial interface. Drive C\S\ high to disable the serial interface and put the device in standby mode.", 2 W2 "Wiper Terminal 2", 3 L2 "Low Terminal 2", 4 H2 "High Terminal 2", 5 VDD (power) "Positive Power-Supply Input. 2.7V =< VDD =< 5.25V. Bypass with a 0.1uF capacitor from VDD to GND as close to the device as possible", 6 NC "No Connection. Not internally connected.", 7 NC "No Connection. Not internally connected.", 8 VSS (power) "Negative Power-Supply Input. Single-supply operation: VSS = GND = 0. Dual-supply operation: -2.5V =< VSS =< -0.2V (VSS can vary as long as (VDD - VSS) =< 5.25V). Bypass with a 0.1uF capacitor from VSS to GND as close to the (See Datasheet)", 9 H1 "High Terminal 1", 10 L1 "Low Terminal 1", 11 W1 "Wiper Terminal 1", 12 GND (power) "Ground", 13 DIN (in) "Serial-Data Input. The data at DIN synchronously loads into the serial shift register on each SCLK rising edge.", 14 NC "No Connection. Not internally connected.", 15 NC "No Connection. Not internally connected.", 16 SCLK (in) "Serial-Clock Input . SCLK clocks in the data when C\S\ is low.", 17 EP (power) "Exposed Pad. Externally connect EP to VSS to provide a low thermal resistance path from the IC junction to the PC board or leave unconnected."

## MAX5496ETE
designator U?
Dual 10k Digital Potentiometer (Voltage Divider) with 3-Wire Serial SPI Control Interface, Non-Volatile, Linear Taper, 1024 Steps, -40 to 85 degC, 16-pin TQFN (T1655+3); PartNumber: MAX5496ETE; DatasheetVersion: Rev. 2; PackageVersion: Rev. Q, 09/2011; PackageReference: T1655-3; PackageDescription: 16-Pin Thin Quad Flatpack, No Leads, Body 5 x 5 mm, Pitch 0.8 mm; Supplier 1: Mouser; Supplier Part Number 1: N/A; Applications: Fiber Communications, Power Supply Cal.; Control Interface: 3-Wire Serial SPI; Features: EEPROM Wiper Memory; Mounting Technology: Surface Mount; Code_JEDEC: MO220; ComponentLink1Description: Manufacturer URL; ComponentLink1URL: http://www.maximintegrated.com/; ComponentLink2Description: Datasheet; ComponentLink2URL: http://datasheets.maximintegrated.com/en/ds/MAX5494-MAX5499.pdf; ComponentLink3Description: Package Specification; ComponentLink3URL: http://pdfserv.maximintegrated.com/package_dwgs/21-0140.PDF
footprint MAXM-T1655-3_N (QFN, 16-Leads, Body 5x5mm, Pitch 0.8mm, Thermal Pad 3.1x3.1mm, IPC Medium Density)
footprint MAXM-T1655-3_L (QFN, 16-Leads, Body 5x5mm, Pitch 0.8mm, Thermal Pad 3.1x3.1mm, IPC High Density)
footprint MAXM-T1655-3_M (QFN, 16-Leads, Body 5x5mm, Pitch 0.8mm, Thermal Pad 3.1x3.1mm, IPC Low Density)
pins: 1 ~{CS} (in) "Active-Low Chip-Select Input. Drive C\S\ low to enable the serial interface. Drive C\S\ high to disable the serial interface and put the device in standby mode.", 2 W2 "Wiper Terminal 2", 3 L2 "Low Terminal 2", 4 DNC "Do Not Connect. Leave unconnected for proper operation.", 5 VDD (power) "Positive Power-Supply Input. 2.7V =< VDD =< 5.25V. Bypass with a 0.1uF capacitor from VDD to GND as close to the device as possible", 6 NC "No Connection. Not internally connected.", 7 NC "No Connection. Not internally connected.", 8 VSS (power) "Negative Power-Supply Input. Single-supply operation: VSS = GND = 0. Dual-supply operation: -2.5V =< VSS =< -0.2V (VSS can vary as long as (VDD - VSS) =< 5.25V). Bypass with a 0.1uF capacitor from VSS to GND as close to the (See Datasheet)", 9 DNC "Do Not Connect. Leave unconnected for proper operation.", 10 L1 "Low Terminal 1", 11 W1 "Wiper Terminal 1", 12 GND (power) "Ground", 13 DIN (in) "Serial-Data Input. The data at DIN synchronously loads into the serial shift register on each SCLK rising edge.", 14 NC "No Connection. Not internally connected.", 15 NC "No Connection. Not internally connected.", 16 SCLK (in) "Serial-Clock Input . SCLK clocks in the data when C\S\ is low.", 17 EP (power) "Exposed Pad. Externally connect EP to VSS to provide a low thermal resistance path from the IC junction to the PC board or leave unconnected."

## MAX5496ETE+
designator U?
Dual 10k Digital Potentiometer (Voltage Divider) with 3-Wire Serial SPI Control Interface, Non-Volatile, Linear Taper, 1024 Steps, -40 to 85 degC, 16-pin TQFN (T1655+3), Pb-Free; PartNumber: MAX5496ETE+; DatasheetVersion: Rev. 2; PackageVersion: Rev. Q, 09/2011; PackageReference: T1655+3; PackageDescription: 16-Pin Thin Quad Flatpack, No Leads, Body 5 x 5 mm, Pitch 0.8 mm; Supplier 1: Digi-Key; Supplier Part Number 1: MAX5496ETE+-ND; Supplier 2: Mouser; Supplier Part Number 2: 700-MAX5496ETE; Applications: Fiber Communications, Power Supply Cal.; Control Interface: 3-Wire Serial SPI; Features: EEPROM Wiper Memory; Mounting Technology: Surface Mount; Code_JEDEC: MO220; ComponentLink1Description: Manufacturer URL; ComponentLink1URL: http://www.maximintegrated.com/; ComponentLink2Description: Datasheet; ComponentLink2URL: http://datasheets.maximintegrated.com/en/ds/MAX5494-MAX5499.pdf; ComponentLink3Description: Package Specification; ComponentLink3URL: http://pdfserv.maximintegrated.com/package_dwgs/21-0140.PDF
footprint MAXM-T1655+3_N (QFN, 16-Leads, Body 5x5mm, Pitch 0.8mm, Thermal Pad 3.1x3.1mm, IPC Medium Density)
footprint MAXM-T1655+3_L (QFN, 16-Leads, Body 5x5mm, Pitch 0.8mm, Thermal Pad 3.1x3.1mm, IPC High Density)
footprint MAXM-T1655+3_M (QFN, 16-Leads, Body 5x5mm, Pitch 0.8mm, Thermal Pad 3.1x3.1mm, IPC Low Density)
pins: 1 ~{CS} (in) "Active-Low Chip-Select Input. Drive C\S\ low to enable the serial interface. Drive C\S\ high to disable the serial interface and put the device in standby mode.", 2 W2 "Wiper Terminal 2", 3 L2 "Low Terminal 2", 4 DNC "Do Not Connect. Leave unconnected for proper operation.", 5 VDD (power) "Positive Power-Supply Input. 2.7V =< VDD =< 5.25V. Bypass with a 0.1uF capacitor from VDD to GND as close to the device as possible", 6 NC "No Connection. Not internally connected.", 7 NC "No Connection. Not internally connected.", 8 VSS (power) "Negative Power-Supply Input. Single-supply operation: VSS = GND = 0. Dual-supply operation: -2.5V =< VSS =< -0.2V (VSS can vary as long as (VDD - VSS) =< 5.25V). Bypass with a 0.1uF capacitor from VSS to GND as close to the (See Datasheet)", 9 DNC "Do Not Connect. Leave unconnected for proper operation.", 10 L1 "Low Terminal 1", 11 W1 "Wiper Terminal 1", 12 GND (power) "Ground", 13 DIN (in) "Serial-Data Input. The data at DIN synchronously loads into the serial shift register on each SCLK rising edge.", 14 NC "No Connection. Not internally connected.", 15 NC "No Connection. Not internally connected.", 16 SCLK (in) "Serial-Clock Input . SCLK clocks in the data when C\S\ is low.", 17 EP (power) "Exposed Pad. Externally connect EP to VSS to provide a low thermal resistance path from the IC junction to the PC board or leave unconnected."

## MAX5496ETE+T
designator U?
Dual 10k Digital Potentiometer (Voltage Divider) with 3-Wire Serial SPI Control Interface, Non-Volatile, Linear Taper, 1024 Steps, -40 to 85 degC, 16-pin TQFN (T1655+3), Pb-Free, Tape and Reel; PartNumber: MAX5496ETE+T; DatasheetVersion: Rev. 2; PackageVersion: Rev. Q, 09/2011; PackageReference: T1655+3; PackageDescription: 16-Pin Thin Quad Flatpack, No Leads, Body 5 x 5 mm, Pitch 0.8 mm; Supplier 1: Digi-Key; Supplier Part Number 1: MAX5496ETE+T-ND; Supplier 2: Mouser; Supplier Part Number 2: 700-MAX5496ETET; Applications: Fiber Communications, Power Supply Cal.; Control Interface: 3-Wire Serial SPI; Features: EEPROM Wiper Memory; Mounting Technology: Surface Mount; Code_JEDEC: MO220; ComponentLink1Description: Manufacturer URL; ComponentLink1URL: http://www.maximintegrated.com/; ComponentLink2Description: Datasheet; ComponentLink2URL: http://datasheets.maximintegrated.com/en/ds/MAX5494-MAX5499.pdf; ComponentLink3Description: Package Specification; ComponentLink3URL: http://pdfserv.maximintegrated.com/package_dwgs/21-0140.PDF
footprint MAXM-T1655+3_N (QFN, 16-Leads, Body 5x5mm, Pitch 0.8mm, Thermal Pad 3.1x3.1mm, IPC Medium Density)
footprint MAXM-T1655+3_L (QFN, 16-Leads, Body 5x5mm, Pitch 0.8mm, Thermal Pad 3.1x3.1mm, IPC High Density)
footprint MAXM-T1655+3_M (QFN, 16-Leads, Body 5x5mm, Pitch 0.8mm, Thermal Pad 3.1x3.1mm, IPC Low Density)
pins: 1 ~{CS} (in) "Active-Low Chip-Select Input. Drive C\S\ low to enable the serial interface. Drive C\S\ high to disable the serial interface and put the device in standby mode.", 2 W2 "Wiper Terminal 2", 3 L2 "Low Terminal 2", 4 DNC "Do Not Connect. Leave unconnected for proper operation.", 5 VDD (power) "Positive Power-Supply Input. 2.7V =< VDD =< 5.25V. Bypass with a 0.1uF capacitor from VDD to GND as close to the device as possible", 6 NC "No Connection. Not internally connected.", 7 NC "No Connection. Not internally connected.", 8 VSS (power) "Negative Power-Supply Input. Single-supply operation: VSS = GND = 0. Dual-supply operation: -2.5V =< VSS =< -0.2V (VSS can vary as long as (VDD - VSS) =< 5.25V). Bypass with a 0.1uF capacitor from VSS to GND as close to the (See Datasheet)", 9 DNC "Do Not Connect. Leave unconnected for proper operation.", 10 L1 "Low Terminal 1", 11 W1 "Wiper Terminal 1", 12 GND (power) "Ground", 13 DIN (in) "Serial-Data Input. The data at DIN synchronously loads into the serial shift register on each SCLK rising edge.", 14 NC "No Connection. Not internally connected.", 15 NC "No Connection. Not internally connected.", 16 SCLK (in) "Serial-Clock Input . SCLK clocks in the data when C\S\ is low.", 17 EP (power) "Exposed Pad. Externally connect EP to VSS to provide a low thermal resistance path from the IC junction to the PC board or leave unconnected."